# Altium schematic symbol library TPA6211TDGNRQ1.SchLib: 2 symbols
Pins are listed as number, name and electrical type; pins without a type are passive.

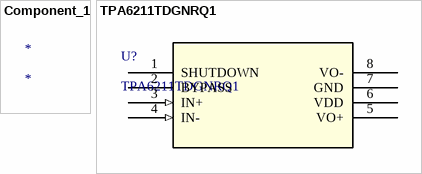
[diagram p0: symbols Component_1 to TPA6211TDGNRQ1]

## Component_1
designator *

## TPA6211TDGNRQ1
designator U?
No Description Available; Mfr_Name: Texas Instruments; Copyright: Copyright (C) 2023 Ultra Librarian. All rights reserved.; Manufacturer_Part_Number: TPA6211TDGNRQ1; RefDes: RefDes; Type: DEV
footprint TPA6211TDGNRQ1-W-THERMALPAD (TSOP, 8-Leads, Body 3.00x3.00mm, Pitch 0.65mm, Thermal Pad 2.15x1.85mm, IPC Medium Density)
pins: 1 SHUTDOWN, 2 BYPASS, 3 IN+ (in), 4 IN- (in), 5 VO+, 6 VDD (power), 7 GND (power), 8 VO-